# EAGLE library part TPS63060DSCR (library mbed-HDK-Power)
Buck Boost Conveter (2.5V-12Vin, 2.5V-8Vout, 2Aout)
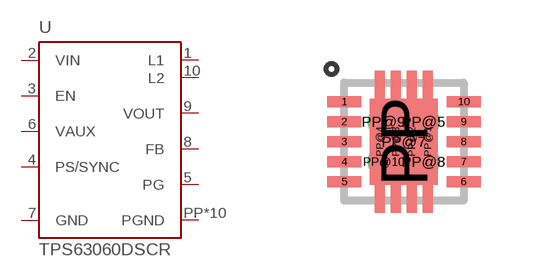
[diagram p2: symbol with the pads of DSC-S-PWSON-N10; footprint DSC-S-PWSON-N10]

Designator prefix U

## TPS63060DSCR (MF: TEXAS INSTRUMENTS; MFN: TPS63060DSCR; OC-DIGIKEY: 296-30204-1-ND; OC-MOUSER: 595-TPS63060DSCR; OC-NEWARK: 76T8143)  [DSC-S-PWSON-N10]
1  L1  in
2  VIN  in
3  EN  in
4  PS/SYNC  in
5  PG  out
6  VAUX  pwr
7  GND  in
8  FB  in
9  VOUT  out
10  L2  in
PP  PGND  pwr
PP@1  PGND  pwr
PP@2  PGND  pwr
PP@3  PGND  pwr
PP@4  PGND  pwr
PP@5  PGND  pwr
PP@7  PGND  pwr
PP@8  PGND  pwr
PP@9  PGND  pwr
PP@10  PGND  pwr

## Footprint DSC-S-PWSON-N10 (pad centres in mm)
smd 0.85 x 0.28: 1 -1.488,1; 2 -1.488,0.5; 3 -1.488,0; 4 -1.488,-0.5; 5 -1.488,-1; 6 1.5,-1; 7 1.5,-0.5; 8 1.5,0; 9 1.5,0.5; 10 1.5,1
smd 1.7 x 2.15: PP 0,0
smd 0.25 x 3.55: PP@1 0.6,0; PP@2 0.2,0; PP@3 -0.2,0; PP@4 -0.6,0
drill 0.3 pad 0.4: PP@5 0.5,0.5; PP@7 0,0; PP@8 0.5,-0.5; PP@9 -0.5,0.5; PP@10 -0.5,-0.5